# Altium footprint library LAN8742A.PcbLib: 1 footprints
Each footprint in its own frame and in the unit in brackets; x right, y up, seen from the top. Pads: shape width x height; smd on the part's side, far side on the other; paste and mask are expansions set on the pad; w line width, h text height; cw(c..) or ccw(c..) is an arc to the next point about the centre after c.
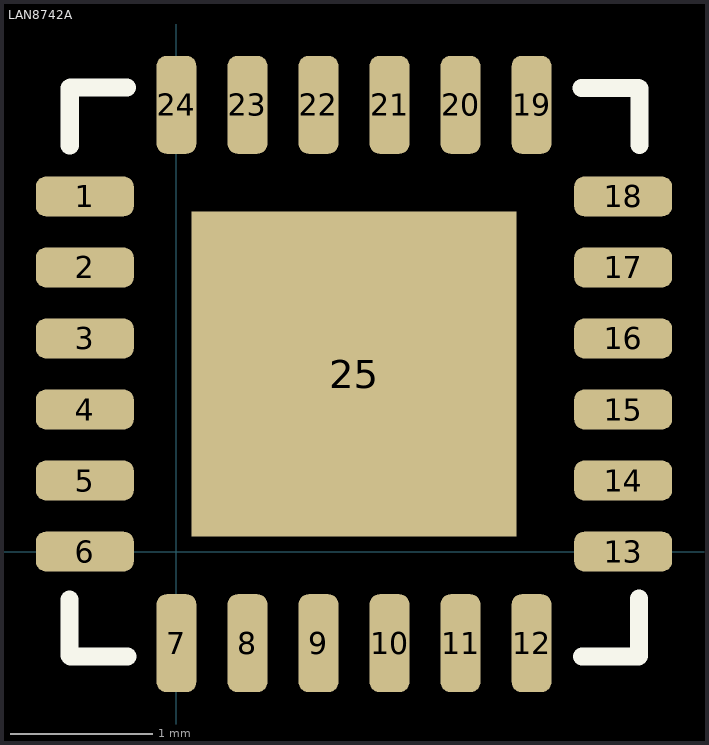
[diagram p0: the footprint, top view; thin cyan lines are the x and y axes]

## LAN8742A [mm]
pads (25):
  rrect50% 0.69x0.28 smd: 1(-0.645,2.5) 2(-0.645,2) 3(-0.645,1.5) 4(-0.645,1) 5(-0.645,0.5) 6(-0.645,0) 13(3.145,0) 14(3.145,0.5) 15(3.145,1) 16(3.145,1.5) 17(3.145,2) 18(3.145,2.5)
  rrect50% 0.28x0.69 smd: 7(0,-0.645) 8(0.5,-0.645) 9(1,-0.645) 10(1.5,-0.645) 11(2,-0.645) 12(2.5,-0.645) 19(2.5,3.145) 20(2,3.145) 21(1.5,3.145) 22(1,3.145) 23(0.5,3.145) 24(0,3.145)
  rect 2.286x2.286 smd: 25(1.25,1.25)
Top Overlay:
  lines w0.127: -0.753,-0.733 -0.753,-0.337 ; -0.751,2.86 -0.751,3.262 ; -0.747,-0.739 -0.345,-0.739 ; -0.745,3.268 -0.349,3.268 ; 2.851,3.265 3.253,3.265 3.259,3.259 3.259,2.863 ; 2.856,-0.74 3.252,-0.74 ; 3.258,-0.734 3.258,-0.332
3D body: height 1, standoff 0, extent -0.752,-0.741 3.259,3.267